# Altium integrated library HSEC8-120-01-L-RA.IntLib: 1 symbol
Pins are listed as number, name and electrical type; pins without a type are passive.

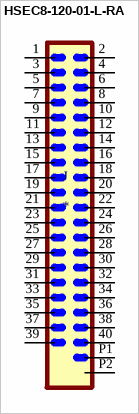
[diagram p0: symbol HSEC8-120-01-L-RA]

## HSEC8-120-01-L-RA
designator J
0.80 mm Edge RateÂ® High-Speed Edge Card Connector, Vertical; MP: HSEC8-120-01-L-RA; MF: Samtec; Availability: Unavailable; Package: None; Value: *; Price: None
footprint SAMTEC_HSEC8-120-01-L-RA
pins: 1, 2, 3, 4, 5, 6, 7, 8, 9, 10, 11, 12, 13, 14, 15, 16, 17, 18, 19, 20, 21, 22, 23, 24, 25, 26, 27, 28, 29, 30, 31, 32, 33, 34, 35, 36, 37, 38, 39, 40, P1 SHIELD, P2 SHIELD